# Altium schematic symbol library ESP8266_NodeMCU_12F_V3.SchLib: 1 symbol
Pins are listed as number, name and electrical type; pins without a type are passive.

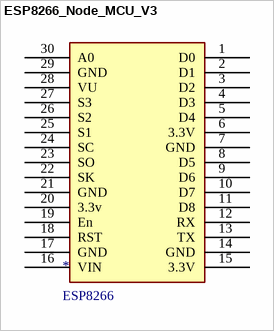
[diagram p0: symbol ESP8266_Node_MCU_V3]

## ESP8266_Node_MCU_V3
designator *, comment ESP8266
footprint ESP8266_Node_MCU_V3
pins: 1 D0, 2 D1, 3 D2, 4 D3, 5 D4, 6 3.3V, 7 GND, 8 D5, 9 D6, 10 D7, 11 D8, 12 RX, 13 TX, 14 GND, 15 3.3V, 16 VIN, 17 GND, 18 RST, 19 En, 20 3.3v, 21 GND, 22 SK, 23 SO, 24 SC, 25 S1, 26 S2, 27 S3, 28 VU, 29 GND, 30 A0